# Altium footprint library SKC 6812RGBX.PcbLib: 1 footprints
Each footprint in its own frame and in the unit in brackets; x right, y up, seen from the top. Pads: shape width x height; smd on the part's side, far side on the other; paste and mask are expansions set on the pad; w line width, h text height; cw(c..) or ccw(c..) is an arc to the next point about the centre after c.
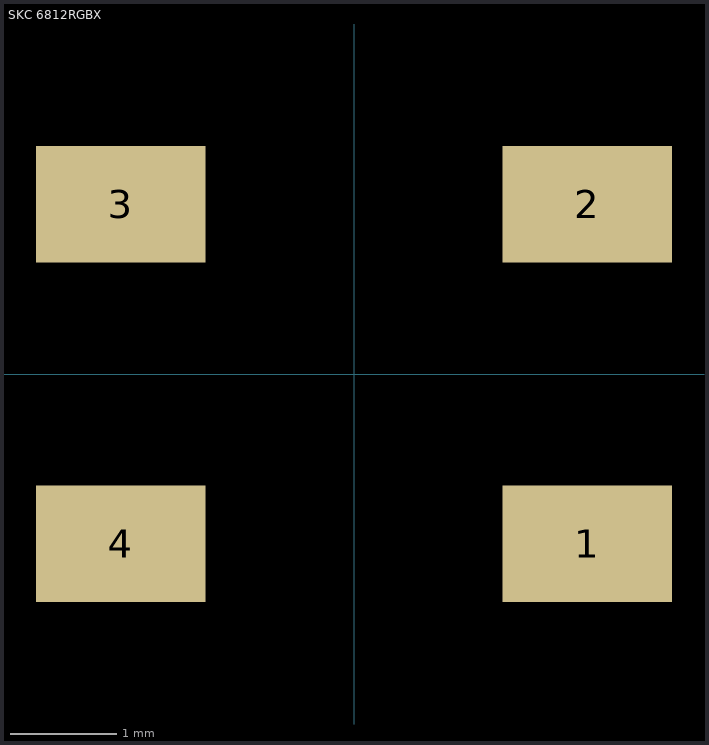
[diagram p0: the footprint, top view; thin cyan lines are the x and y axes]

## SKC 6812RGBX [mm]
pads (4):
  rect 1.6x1.1 smd: 1(2.2,-1.6) 2(2.2,1.6) 3(-2.2,1.6) 4(-2.2,-1.6)
3D body: height 0.01, standoff 0, extent -2.5,1.15 -1.7,2.05
3D body: height 0.1, standoff 0, extent 1.7,1.2 2.5,2.1
3D body: height 0.01, standoff 0, extent 1.7,-2.05 2.5,-1.15
3D body: height 0.01, standoff 0, extent -2.5,-2.05 -1.7,-1.15
3D body: height 1.5, standoff 0.1, extent -2.45,-2.45 2.45,2.45